# EAGLE library part IN-8 (library nixies-us)
IN-8: medium numeric frontview nixie tube
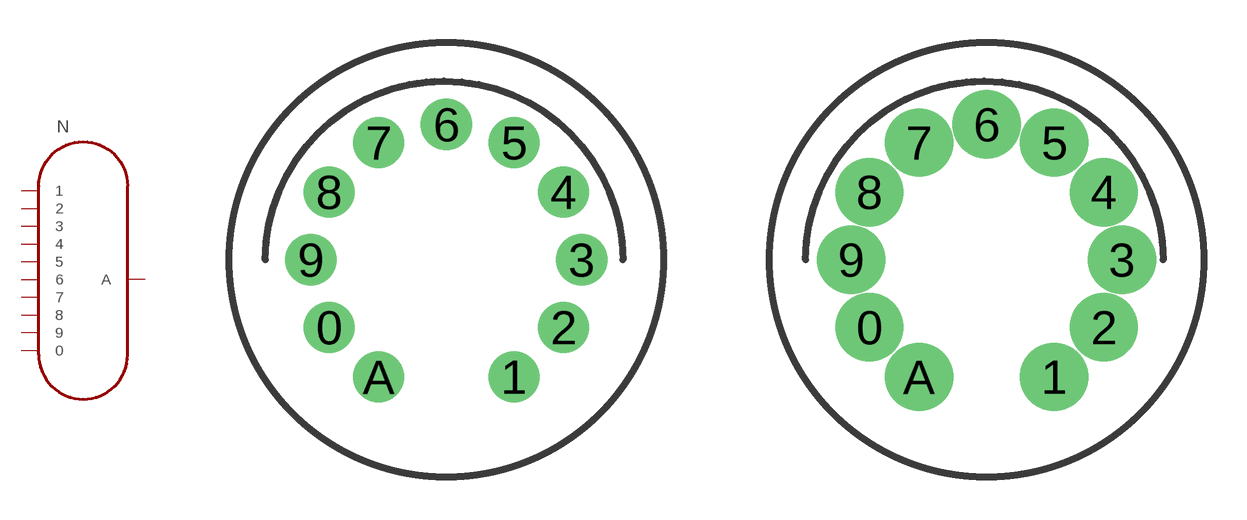
[diagram p4: symbol with the pads of IN-8; footprints IN-8, IN-8-DSUB]

Designator prefix N

## IN-8  [IN-8]
0  0
1  1
2  2
3  3
4  4
5  5
6  6
7  7
8  8
9  9
A  A

## IN-8DSUB  [IN-8-DSUB]
Pads as for IN-8

## Footprint IN-8 (pad centres in mm)
May be used with socket: 11-pin- Russian
drill 1.2: 0 -4.114,-2.375; 1 2.375,-4.114; 2 4.114,-2.375; 3 4.75,0; 4 4.114,2.375; 5 2.375,4.114; 6 0,4.75; 7 -2.375,4.114; 8 -4.114,2.375; 9 -4.75,0; A -2.375,-4.114

## Footprint IN-8-DSUB (pad centres in mm)
May be used with socket: 11-pin- Russian
drill 1.6 pad 2.184: 0 -4.114,-2.375; 1 2.375,-4.114; 2 4.114,-2.375; 3 4.75,0; 4 4.114,2.375; 5 2.375,4.114; 6 0,4.75; 7 -2.375,4.114; 8 -4.114,2.375; 9 -4.75,0; A -2.375,-4.114